# Altium schematic symbol library ATB322515.SchLib: 1 symbol
Pins are listed as number, name and electrical type; pins without a type are passive.

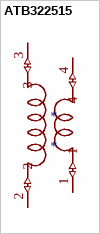
[diagram p0: symbol ATB322515]

## ATB322515
designator *
footprint ATB322515
pins: 1 (io), 2 (io), 3 (io), 4 (io)